# Altium schematic symbol library QUTMS_FuseLibrary.SchLib: 1 symbol
Pins are listed as number, name and electrical type; pins without a type are passive.

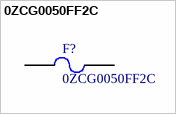
[diagram p0: symbol 0ZCG0050FF2C]

## 0ZCG0050FF2C
designator F?
Polymeric PTC Resettable Fuse 16V 500mA Ih Surface Mount 1812 (4532 Metric), Concave
footprint 1812 FUSE
pins: 1, 2